# EAGLE library part LY330ALH (library zz-upenn)
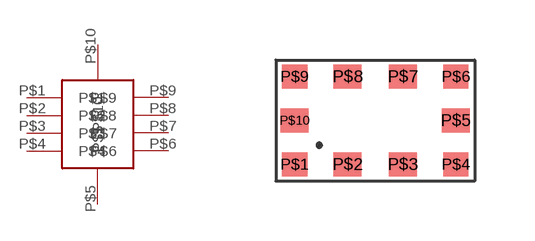
[diagram p0: symbol with the pads of LY330ALH; footprint LY330ALH]

Designator prefix -

## LY330ALH  [LY330ALH]
P$1  P$1
P$2  P$2
P$3  P$3
P$4  P$4
P$5  P$5
P$6  P$6
P$7  P$7
P$8  P$8
P$9  P$9
P$10  P$10

## Footprint LY330ALH (pad centres in mm)
smd 0.635 x 0.599: P$1 -2.018,-1.1; P$4 2.018,-1.1; P$6 2.018,1.1; P$9 -2.018,1.1
smd 0.701 x 0.599: P$2 -0.691,-1.1; P$3 0.691,-1.1; P$5 2.018,0; P$7 0.691,1.1; P$8 -0.691,1.1; P$10 -2.018,0